# Altium schematic symbol library HabLib.SchLib: 159 symbols (part 1 of 2)
Pins are listed as number, name and electrical type; pins without a type are passive.

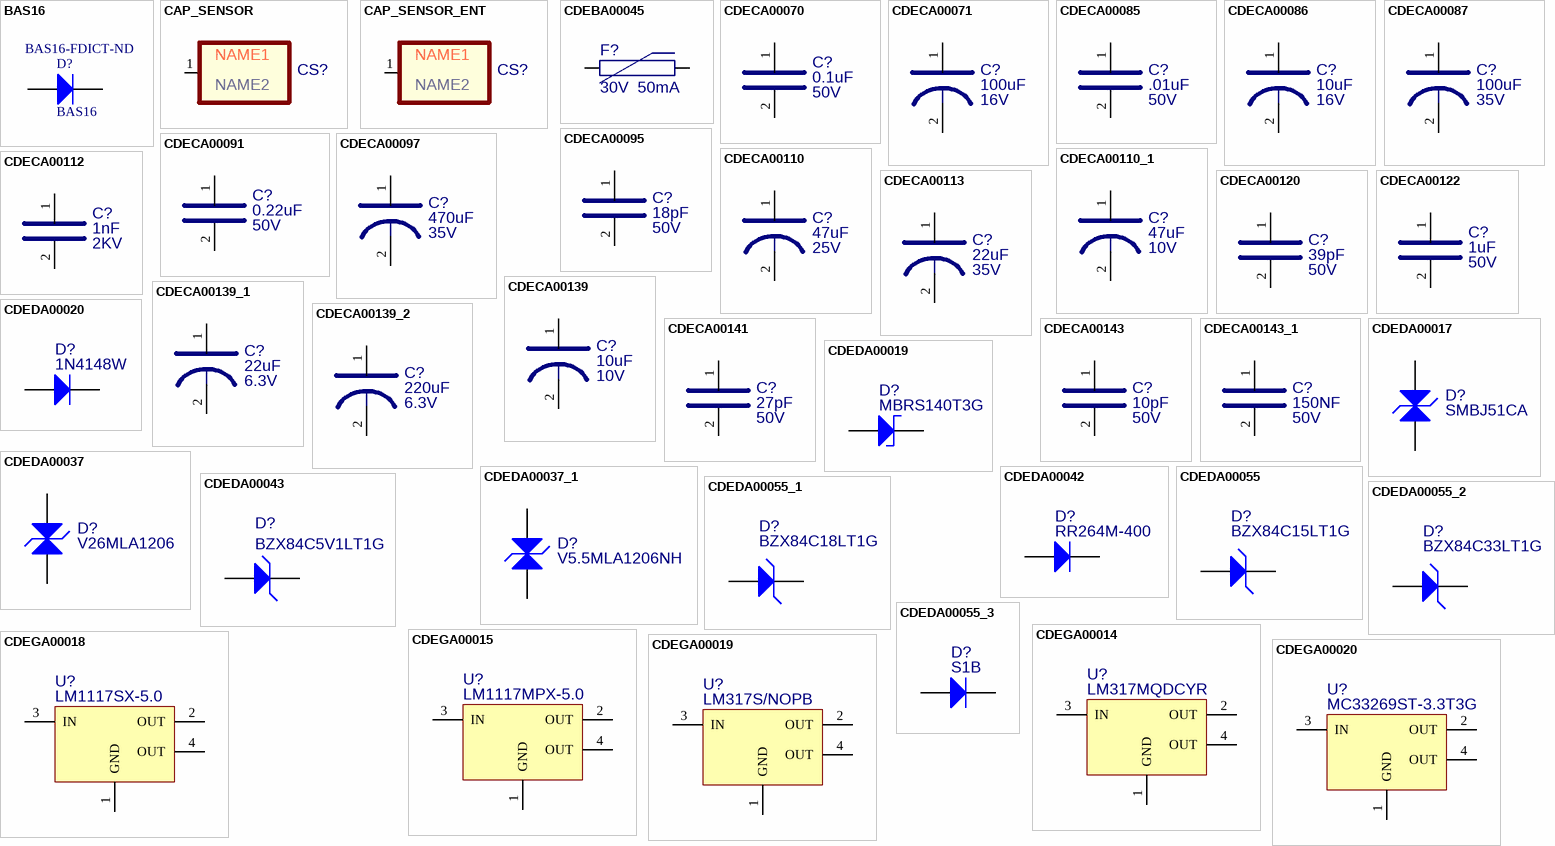
[diagram p0: symbols BAS16 to CDEGA00020]

## BAS16
designator D?  Supplier Part Number 1: BAS16-FDICT-ND
Silicon Switching Diode for High-Speed Switching; Note: Pin 2 is not connected and not drawn.; Published: 21-Mar-2003; DatasheetDocument: Oct-1999; PackageDocument: Sep-2001; PackageReference: SOT-23; Publisher: Altium Limited; ComponentLink1Description: Manufacturer Link; ComponentLink1URL: http://www.infineon.com/; ComponentLink2Description: Datasheet; ComponentLink2URL: http://www.infineon.com/upload/Document/cmc_upload/documents/012/5331/bas16series.pdf; Supplier 1: Digi-Key
simulation model BAS16 (SUBCKT)
footprint SOT23 (SOT-23; 3 Leads; Body 3.1 x 2.5 mm, inc. leads (LxW max), Alternate Lead Configuration)
pins: 1 A, 3 K

## CAP_SENSOR
designator CS?  value NAME1  VALUE2: NAME2  (hidden comment: CAP_SENSOR)
CAP SENSOR FOR PCB; Published: 8-Jun-2000; LatestRevisionDate: 04-Mar-2005; LatestRevisionNote: PCB Footprint replaced.; PackageReference: J1-0603; Publisher: Altium Limited
footprint CAPTOUCH1_10X10 (Cap Touch pad 10x10mm)
pins: 1

## CAP_SENSOR_ENT
designator CS?  value NAME1  VALUE2: NAME2  (hidden comment: CAP_SENSOR_ENT)
CAP SENSOR FOR PCB; Published: 8-Jun-2000; LatestRevisionDate: 04-Mar-2005; LatestRevisionNote: PCB Footprint replaced.; PackageReference: J1-0603; Publisher: Altium Limited
footprint CAPTOUCH1_10X23 (Cap Touch pad 10x10mm)
pins: 1

## CDEBA00045
designator F?  VOLTAGE: 30V  CURRENT: 50mA  (hidden comment: CDEBA00045)
FUSE, RESETTABLE, 50MA, 30V, 1210, ROHS; MFG_PN: MICROSMD005F-2; MFG: TYCO ELECTRONICS; Published: 8-Jun-2000; LatestRevisionDate: 17-Jul-2002; LatestRevisionNote: Re-released for DXP Platform.; PackageReference: PIN-W2/E2.8; Publisher: Altium Limited; Supplier 1: Digi-Key; Supplier Part Number 1: MICROSMD005FCT-ND
footprint MICROSMD0005F (Chip FUSE; Body 3.2 x 2.8 mm (LxW typ))
pins: 1, 2

## CDECA00070
designator C?  value 0.1uF  VOLTAGE: 50V  (hidden comment: CDECA00070)
CAP, CERAMIC CHIP 0.1UF 10% 50V X7R ROHS; MFG: AVX; MFG_PN: 12065C104KAT2A; TOLERANCE: 10%; Supplier 1: Digi-Key; Supplier Part Number 1: 478-1556-1-ND
footprint 3216[1206] - TAN COLOR (Chip Resistor; Body 3.2 x 1.6 mm (LxW typ))
pins: 1, 2

## CDECA00071
designator C?  value 100uF  VOLTAGE: 16V  (hidden comment: CDECA00071)
CAP, AL E, LOW ESR, 100UF, 16V, 20%, ROHS; MFG: PANASONIC; MFG_PN: EEV-HA1C101WP; TOLERANCE: 20%; Supplier 1: Digi-Key; Supplier Part Number 1: PCE3295CT-ND
footprint CAP_ALE_D
pins: 1, 2

## CDECA00085
designator C?  value .01uF  VOLTAGE: 50V  (hidden comment: CDECA00085)
CAP, CERAMIC CHIP 0.01UF 10% 50V X7R ROHS; MFG: PANASONIC; MFG_PN: ECJ-1VB1H103K; TOLERANCE: 10%; Supplier 1: Digi-Key; Supplier Part Number 1: PCC1784CT-ND
footprint 3216[1206] - TAN COLOR (Chip Resistor; Body 3.2 x 1.6 mm (LxW typ))
pins: 1, 2

## CDECA00086
designator C?  value 10uF  VOLTAGE: 16V  (hidden comment: CDECA00086)
CAP, AL E, 10UF, 16V, 20%, ROHS; MFG: PANASONIC; MFG_PN: EEEHB1C100R; TOLERANCE: 20%; Supplier 1: Digi-Key; Supplier Part Number 1: PCE4137CT-ND
footprint CAP_ALE_B
pins: 1, 2

## CDECA00087
designator C?  value 100uF  VOLTAGE: 35V  (hidden comment: CDECA00087)
CAP, AL E, LOW ESR, 100UF, 35V, 20%, ROHS; MFG: PANASONIC; MFG_PN: EEETG1V101UP; TOLERANCE: 20%; Supplier 1: Digi-Key; Supplier Part Number 1: PCE4110CT-ND
footprint CAP_ALE_F
pins: 1, 2

## CDECA00091
designator C?  value 0.22uF  VOLTAGE: 50V  (hidden comment: CDECA00091)
CAP, CERAMIC CHIP 0.22UF 10% 50V X7R ROHS; MFG: PANASONIC; MFG_PN: ECJ-3YB1H224K; TOLERANCE: 10%; Supplier 1: Digi-Key; Supplier Part Number 1: PCC2299CT-ND
footprint 3216[1206] - TAN COLOR (Chip Resistor; Body 3.2 x 1.6 mm (LxW typ))
pins: 1, 2

## CDECA00095
designator C?  value 18pF  VOLTAGE: 50V  (hidden comment: CDECA00095)
CAP, CERAMIC, NPO, 18PF, 50V, 1206, 5%, RoHS; MFG: YAGEO; MFG_PN: CC1206JRNPO9BN180; TOLERANCE: 10%; Supplier 1: Digi-Key; Supplier Part Number 1: 311-1152-1-ND
footprint 3216[1206] - TAN COLOR (Chip Resistor; Body 3.2 x 1.6 mm (LxW typ))
pins: 1, 2

## CDECA00097
designator C?  value 470uF  VOLTAGE: 35V  (hidden comment: CDECA00097)
CAP, AL E, LOW ESR, 470UF, 35V, 20%, ROHS; MFG: PANASONIC; MFG_PN: EEV-TG1V471UQ; TOLERANCE: 20%; Supplier 1: Digi-Key; Supplier Part Number 1: PCE3691CT-ND
footprint CAP_H13
pins: 1, 2

## CDECA00110
designator C?  value 47uF  VOLTAGE: 25V  (hidden comment: CDECA00110)
CAP, AL E, 47UF, 25V, 20%, ROHS; MFG: PANASONIC; MFG_PN: EEE-FK1E470P; TOLERANCE: 20%; Supplier 1: Digi-Key; Supplier Part Number 1: PCE3804CT-ND
footprint CAP_ALE_D
pins: 1, 2

## CDECA00110_1
designator C?  value 47uF  VOLTAGE: 10V  (hidden comment: CDECA00110_1)
CAP, TANT, 47UF, 25V, 20%, 3528 ROHS; MFG: AVX; MFG_PN: TAJB476M010RNJ; TOLERANCE: 20%; Supplier 1: Digi-Key; Supplier Part Number 1: 478-3891-1-ND
footprint CAP_TANT_3528 (Chip Capacitor, Body 3.81x2.54mm, IPC Medium Density)
pins: 1, 2

## CDECA00112
designator C?  value 1nF  VOLTAGE: 2KV  (hidden comment: CDECA00112)
CAP, CERAMIC CHIP 1nF 10% 2000V X7R ROHS; MFG: AVX; MFG_PN: 1206GC102KAT1A; TOLERANCE: 10%; Supplier 1: Digi-Key; Supplier Part Number 1: 478-2956-1-ND
footprint 3216[1206] - TAN COLOR (Chip Resistor; Body 3.2 x 1.6 mm (LxW typ))
pins: 1, 2

## CDECA00113
designator C?  value 22uF  VOLTAGE: 35V  (hidden comment: CDECA00113)
CAP, AL E, 22UF, 35V, 20%, ROHS; MFG: NICHICON; MFG_PN: UWX1V220MCL1GB; TOLERANCE: 20%; Supplier 1: Digi-Key; Supplier Part Number 1: 493-2118-1-ND
footprint CAP_ALE_D
pins: 1, 2

## CDECA00120
designator C?  value 39pF  VOLTAGE: 50V  (hidden comment: CDECA00120)
CAP, CERAMIC, NPO, 39PF, 50V, 1206, 5%, RoHS; MFG: YAGEO; MFG_PN: CC1206JRNP09BN390; TOLERANCE: 10%; Supplier 1: Digi-Key; Supplier Part Number 1: 311-1157-1-ND
footprint 3216[1206] - TAN COLOR (Chip Resistor; Body 3.2 x 1.6 mm (LxW typ))
pins: 1, 2

## CDECA00122
designator C?  value 1uF  VOLTAGE: 50V  (hidden comment: CDECA00122)
CAP, CERAMIC CHIP 1UF 10% 50V X7R ROHS; MFG: AVX; MFG_PN: GRM32RR71H105K; TOLERANCE: 10%; Supplier 1: Digi-Key; Supplier Part Number 1: 490-1863-1-ND
footprint 3225[1210] (Chip Resistor; Body 3.2 x 2.5 mm (LxW typ))
pins: 1, 2

## CDECA00139
designator C?  value 10uF  VOLTAGE: 10V  (hidden comment: CDECA00139)
CAP, TANTALUM, 10UF, 10V, 20%, LOW ESR, ROHS; MFG: AVX; MFG_PN: TCJA106M010R0300; TOLERANCE: 20%; Supplier 1: Digi-Key; Supplier Part Number 1: 478-3127-2-ND
footprint 3216[1206] - TANTALUM (Chip Resistor; Body 3.2 x 1.6 mm (LxW typ))
pins: 1, 2

## CDECA00139_1
designator C?  value 22uF  VOLTAGE: 6.3V  (hidden comment: CDECA00139_1)
CAP, TANT, 22UF, 6.3V, 20%, LOW ESR, 1206ROHS; MFG: AVX; MFG_PN: TAJA226K006RNJ; TOLERANCE: 20%; Supplier 1: Digi-Key; Supplier Part Number 1: 478-3865-1-ND
footprint 3216[1206] - TANTALUM (Chip Resistor; Body 3.2 x 1.6 mm (LxW typ))
pins: 1, 2

## CDECA00139_2
designator C?  value 220uF  VOLTAGE: 6.3V  (hidden comment: CDECA00139_2)
CAP, TANT, 220UF, 6.3V, 20%, LOW ESR, 3528, ROHS; MFG: KEMET; MFG_PN: T520B227M006ATE070; TOLERANCE: 20%; Supplier 1: Digi-Key; Supplier Part Number 1: 399-5756-1-ND
footprint CAP_TANT_3528 (Chip Capacitor, Body 3.81x2.54mm, IPC Medium Density)
pins: 1, 2

## CDECA00141
designator C?  value 27pF  VOLTAGE: 50V  (hidden comment: CDECA00141)
CAP, CERAMIC, NPO, 27PF, 50V, 1206, 5%, RoHS; MFG: AVX; MFG_PN: 12065A270JAT2A; TOLERANCE: 10%; Supplier 1: Digi-Key; Supplier Part Number 1: 478-1473-1-ND
footprint 3216[1206] - TAN COLOR (Chip Resistor; Body 3.2 x 1.6 mm (LxW typ))
pins: 1, 2

## CDECA00143
designator C?  value 10pF  VOLTAGE: 50V  (hidden comment: CDECA00143)
CAP, CERAMIC, NPO, 10PF, 50V, 1206, 5%, RoHS; MFG: AVX; MFG_PN: 12065A100DAT2A; TOLERANCE: 10%; Supplier 1: Digi-Key; Supplier Part Number 1: 478-5053-1-ND
footprint 3216[1206] - TAN COLOR (Chip Resistor; Body 3.2 x 1.6 mm (LxW typ))
pins: 1, 2

## CDECA00143_1
designator C?  value 150NF  VOLTAGE: 50V  (hidden comment: CDECA00143_1)
CAP, CERAMIC, X7R, 150NF, 50V, 1206, 10%, RoHS; MFG: KEMET; MFG_PN: C0805C154K5RACTU; TOLERANCE: 10%; Supplier 1: Digi-Key; Supplier Part Number 1: 399-3489-1-ND
footprint 3216[1206] - TAN COLOR (Chip Resistor; Body 3.2 x 1.6 mm (LxW typ))
pins: 1, 2

## CDEDA00017
designator D?  value SMBJ51CA  (hidden comment: CDEDA00017)
DIODE, TVS, 51V, 600W, SMB, ROHS; MFG: LITTLEFUSE; Published: 8-Jun-2000; LatestRevisionDate: 17-Jul-2002; LatestRevisionNote: Re-released for DXP Platform.; DatasheetDocument: 1997; PackageReference: DO-35; Publisher: Altium Limited; Code_JEDEC: DO-204-AH; ComponentLink1Description: Manufacturer Link; ComponentLink1URL: http://www.fairchildsemi.com/; ComponentLink2Description: Datasheet; ComponentLink2URL: http://www.fairchildsemi.com/ds/1N%2F1N4148.pdf; MFG_PN: SMBJ51CA; Supplier 1: Digi-Key; Supplier Part Number 1: SMBJ51CA-FDICT-ND
footprint DIODE_SMB (DIODE SMB PACKAGE)
pins: 1 A, 2 K

## CDEDA00019
designator D?  value MBRS140T3G  (hidden comment: CDEDA00019)
Diode, Schottky rectifier, 40V, 1A, SMB package, Pb free; MFG: ON SEMICONDUCTOR; Published: 8-Jun-2000; LatestRevisionDate: 17-Jul-2002; LatestRevisionNote: Re-released for DXP Platform.; DatasheetDocument: 1997; PackageReference: DO-35; Publisher: Altium Limited; Code_JEDEC: DO-204-AH; ComponentLink1Description: Manufacturer Link; ComponentLink1URL: http://www.fairchildsemi.com/; ComponentLink2Description: Datasheet; ComponentLink2URL: http://www.fairchildsemi.com/ds/1N%2F1N4148.pdf; Supplier 1: Digi-Key; Supplier Part Number 1: MBRS140T3GOSCT-ND; MFG_PN: MBRS140T3G
footprint DIODE_SMB (DIODE SMB PACKAGE)
pins: 1 A, 2 K

## CDEDA00020
designator D?  value 1N4148W  (hidden comment: CDEDA00020)
DIODE, 150MA, 100V, SOD123; MFG: DIODES INC; MFG_PN: 1N4148W-7-F; Published: 8-Jun-2000; LatestRevisionDate: 17-Jul-2002; LatestRevisionNote: Re-released for DXP Platform.; DatasheetDocument: 1997; PackageReference: DO-35; Publisher: Altium Limited; Code_JEDEC: DO-204-AH; ComponentLink1Description: Manufacturer Link; ComponentLink1URL: http://www.fairchildsemi.com/; ComponentLink2Description: Datasheet; ComponentLink2URL: http://www.fairchildsemi.com/ds/1N%2F1N4148.pdf; Supplier 1: Digi-Key; Supplier 2: Digi-Key; Supplier Part Number 1: 1N4148W-FDICT-ND; Supplier Part Number 2: 1N4148WTPMSDKR-ND
footprint SOD123 (SOD-123; 2 Leads; Body 2.7 x 1.6 mm, (LxW))
pins: 1 A, 2 K

## CDEDA00037
designator D?  value V26MLA1206  (hidden comment: CDEDA00037)
VARISTOR, TVS, 26VDC, 1206, 150A, .60J, RoHS; MFG: LITTLEFUSE; Published: 8-Jun-2000; LatestRevisionDate: 17-Jul-2002; LatestRevisionNote: Re-released for DXP Platform.; DatasheetDocument: 1997; PackageReference: DO-35; Publisher: Altium Limited; Code_JEDEC: DO-204-AH; ComponentLink1Description: Manufacturer Link; ComponentLink1URL: http://www.fairchildsemi.com/; ComponentLink2Description: Datasheet; ComponentLink2URL: http://www.fairchildsemi.com/ds/1N%2F1N4148.pdf; MFG_PN: V26MLA1206; Supplier 1: Digi-Key; Supplier Part Number 1: F2196CT-ND
footprint 3216[1206] (Chip Resistor; Body 3.2 x 1.6 mm (LxW typ))
pins: 1 A, 2 K

## CDEDA00037_1
designator D?  value V5.5MLA1206NH  (hidden comment: CDEDA00037_1)
VARISTOR, TVS, 5.5VDC, 1206, 150A, .60J, RoHS; Manufacturer: Littelfuse Inc; MFG: LITTLEFUSE; Description: VARISTR TVS MULTI 5.5V 150A 1206; Varistor Voltage: 9.3V; Number of Circuits: 1; Maximum AC Volts: 4VAC; Energy: 0.40J; MFG_PN: V5.5MLA1206NH; Supplier 1: Digi-Key; Manufacturer Part Number: V5.5MLA1206NH; RoHS: RoHS Compliant; Category: Circuit Protection; Stock 1: 17500; Pricing 1: 2500=0.437, 5000=0.415, 10000=0.398, 25000=0.387 (USD); Current-Surge: 150A; Maximum DC Volts: 5.5VDC; Package / Case: 1206 (3216 Metric); ComponentLink1URL: http://www.littelfuse.com/data/en/Data_Sheets/Littelfuse_MLV_MLA.pdf; ComponentLink1Description: http://www.littelfuse.com/data/en/Data_Sheets/Littelfuse_MLV_MLA.pdf; Supplier Part Number 1: F2219TR-ND
footprint 3216[1206] (Chip Resistor; Body 3.2 x 1.6 mm (LxW typ))
pins: 1 A, 2 K

## CDEDA00042
designator D?  value RR264M-400  (hidden comment: CDEDA00042)
DIODE, RECTIFIER, 400V, 700MA, SOD123, ROHS; MFG: ROHM; Published: 8-Jun-2000; LatestRevisionDate: 17-Jul-2002; LatestRevisionNote: Re-released for DXP Platform.; DatasheetDocument: 1997; PackageReference: DO-35; Publisher: Altium Limited; Code_JEDEC: DO-204-AH; ComponentLink1Description: Manufacturer Link; ComponentLink1URL: http://www.fairchildsemi.com/; ComponentLink2Description: Datasheet; ComponentLink2URL: http://www.fairchildsemi.com/ds/1N%2F1N4148.pdf; Supplier 1: Digi-Key; Supplier Part Number 1: RR264M-400CT-ND; MFG_PN: RR264M-400
signal-integrity model 1N4148
footprint SOD123 (SOD-123; 2 Leads; Body 2.7 x 1.6 mm, (LxW))
pins: 1 A, 2 K

## CDEDA00043
designator D?  value BZX84C5V1LT1G  (hidden comment: CDEDA00043)
DIODE, ZENER, 5.1V, 225MW, SOT-23, ROHS; MFG: ON SEMICONDUCTOR; Published: 8-Jun-2000; LatestRevisionDate: 17-Jul-2002; LatestRevisionNote: Re-released for DXP Platform.; DatasheetDocument: 1997; PackageReference: DO-35; Publisher: Altium Limited; Code_JEDEC: DO-204-AH; ComponentLink1Description: Manufacturer Link; ComponentLink2Description: Datasheet; MFG_PN: BZX84C5V1LT1G; Supplier 1: Digi-Key; Supplier Part Number 1: BZX84C5V1LT1GOSCT-ND
footprint SOT23 - TRANSISTOR (SOT-23; 3 Leads; Body 3.1 x 2.5 mm, inc. leads (LxW max), Alternate Lead Configuration)
pins: 1 A, 3 K

## CDEDA00055
designator D?  value BZX84C15LT1G  (hidden comment: CDEDA00055)
DIODE, ZENER, 15V, 225MW, SOT-23, ROHS; MFG: ON SEMICONDUCTOR; MFG_PN: BZX84C15LT1G; Supplier 1: Digi-Key; Supplier Part Number 1: BZX84C15LT1GOSCT-ND
footprint SOT23 - TRANSISTOR (SOT-23; 3 Leads; Body 3.1 x 2.5 mm, inc. leads (LxW max), Alternate Lead Configuration)
pins: 1 A, 3 K

## CDEDA00055_1
designator D?  value BZX84C18LT1G  (hidden comment: CDEDA00055_1)
DIODE, ZENER, 18V, 225MW, SOT-23, ROHS; MFG: ON SEMICONDUCTOR; MFG_PN: BZX84C18LT1G; Supplier 1: Digi-Key; Supplier Part Number 1: BZX84C18LT1GOSCT-ND
footprint SOT23 - TRANSISTOR (SOT-23; 3 Leads; Body 3.1 x 2.5 mm, inc. leads (LxW max), Alternate Lead Configuration)
pins: 1 A, 3 K

## CDEDA00055_2
designator D?  value BZX84C33LT1G  (hidden comment: CDEDA00055_2)
DIODE, ZENER, 33V, 225MW, SOT-23, ROHS; MFG: ON SEMICONDUCTOR; MFG_PN: BZX84C33LT1G; Supplier 1: Digi-Key; Supplier Part Number 1: BZX84C33LT1GOSCT-ND
footprint SOT23 - TRANSISTOR (SOT-23; 3 Leads; Body 3.1 x 2.5 mm, inc. leads (LxW max), Alternate Lead Configuration)
pins: 1 A, 3 K

## CDEDA00055_3
designator D?  value S1B  (hidden comment: CDEDA00055_3)
DIODE, 1A, 100V, SMA, ROHS; MFG: FAIRCHILD SEMICONDUCTOR; MFG_PN: S1B; Supplier 1: Digi-Key; Supplier Part Number 1: S1BFSCT-ND
footprint DIODE SMA (SMA DIODE FOOTPRINT)
pins: 1 A, 2 K

## CDEGA00014
designator U?  value LM317MQDCYR  (hidden comment: CDEGA00014)
IC, REGULATOR, LINEAR, ADJUSTABLE, SOT-223; MFG: TEXAS INSTRUMENTS; MFG_PN: LM317MQDCYR; Supplier 1: Digi-Key; Supplier 2: Digi-Key; Supplier Part Number 1: LM317MBSTT3GOSCT-ND; Supplier Part Number 2: 296-23127-1-ND
footprint SOT223 (SOT-223/SC-73; 4 Leads; Body 6.7 x 7.3 mm, inc. leads (LxW max))
pins: 1 GND, 2 OUT, 3 IN, 4 OUT

## CDEGA00015
designator U?  value LM1117MPX-5.0  (hidden comment: CDEGA00015)
IC, REGULATOR, 5V, .8A, SOT-223, ROHS; MFG: NATIONAL SEMICONDUCTOR; MFG_PN: LM1117MPX-5.0; Supplier 1: Digi-Key; Supplier 2: Digi-Key; Supplier Part Number 1: 497-1243-1-ND; Supplier Part Number 2: LM1117MPX-5.0CT-ND
footprint SOT223 (SOT-223/SC-73; 4 Leads; Body 6.7 x 7.3 mm, inc. leads (LxW max))
pins: 1 GND, 2 OUT, 3 IN, 4 OUT

## CDEGA00018
designator U?  value LM1117SX-5.0  (hidden comment: CDEGA00018)
IC, REGULATOR, LDO, 5.0V, TO-263, ROHS; MFG: NATIONAL SEMICONDUCTOR; MFG_PN: LM1117SX-5.0; Supplier 1: Digi-Key; Supplier Part Number 1: LM1117SX-5.0-ND
pins: 1 GND, 2 OUT, 3 IN, 4 OUT

## CDEGA00019
designator U?  value LM317S/NOPB  (hidden comment: CDEGA00019)
IC, REGULATOR, LINEAR, ADJUSTABLE, TO-263; MFG: NATIONAL SEMICONDUCTOR; MFG_PN: LM317S/NOPB; Supplier 1: Digi-Key; Supplier 2: Digi-Key; Supplier Part Number 1: FAN1086M25X-ND; Supplier Part Number 2: LM317S-ND
pins: 1 GND, 2 OUT, 3 IN, 4 OUT

## CDEGA00020
designator U?  value MC33269ST-3.3T3G  (hidden comment: CDEGA00020)
IC, REGULATOR, LOD, 3.3V, SOT-223, ROHS; MFG: ON SEMICONDUCTOR; MFG_PN: MC33269ST-3.3T3G; Supplier 1: Digi-Key; Supplier Part Number 1: MC33269ST-3.3T3GOSCT-ND
footprint SOT223 (SOT-223/SC-73; 4 Leads; Body 6.7 x 7.3 mm, inc. leads (LxW max))
pins: 1 GND, 2 OUT, 3 IN, 4 OUT

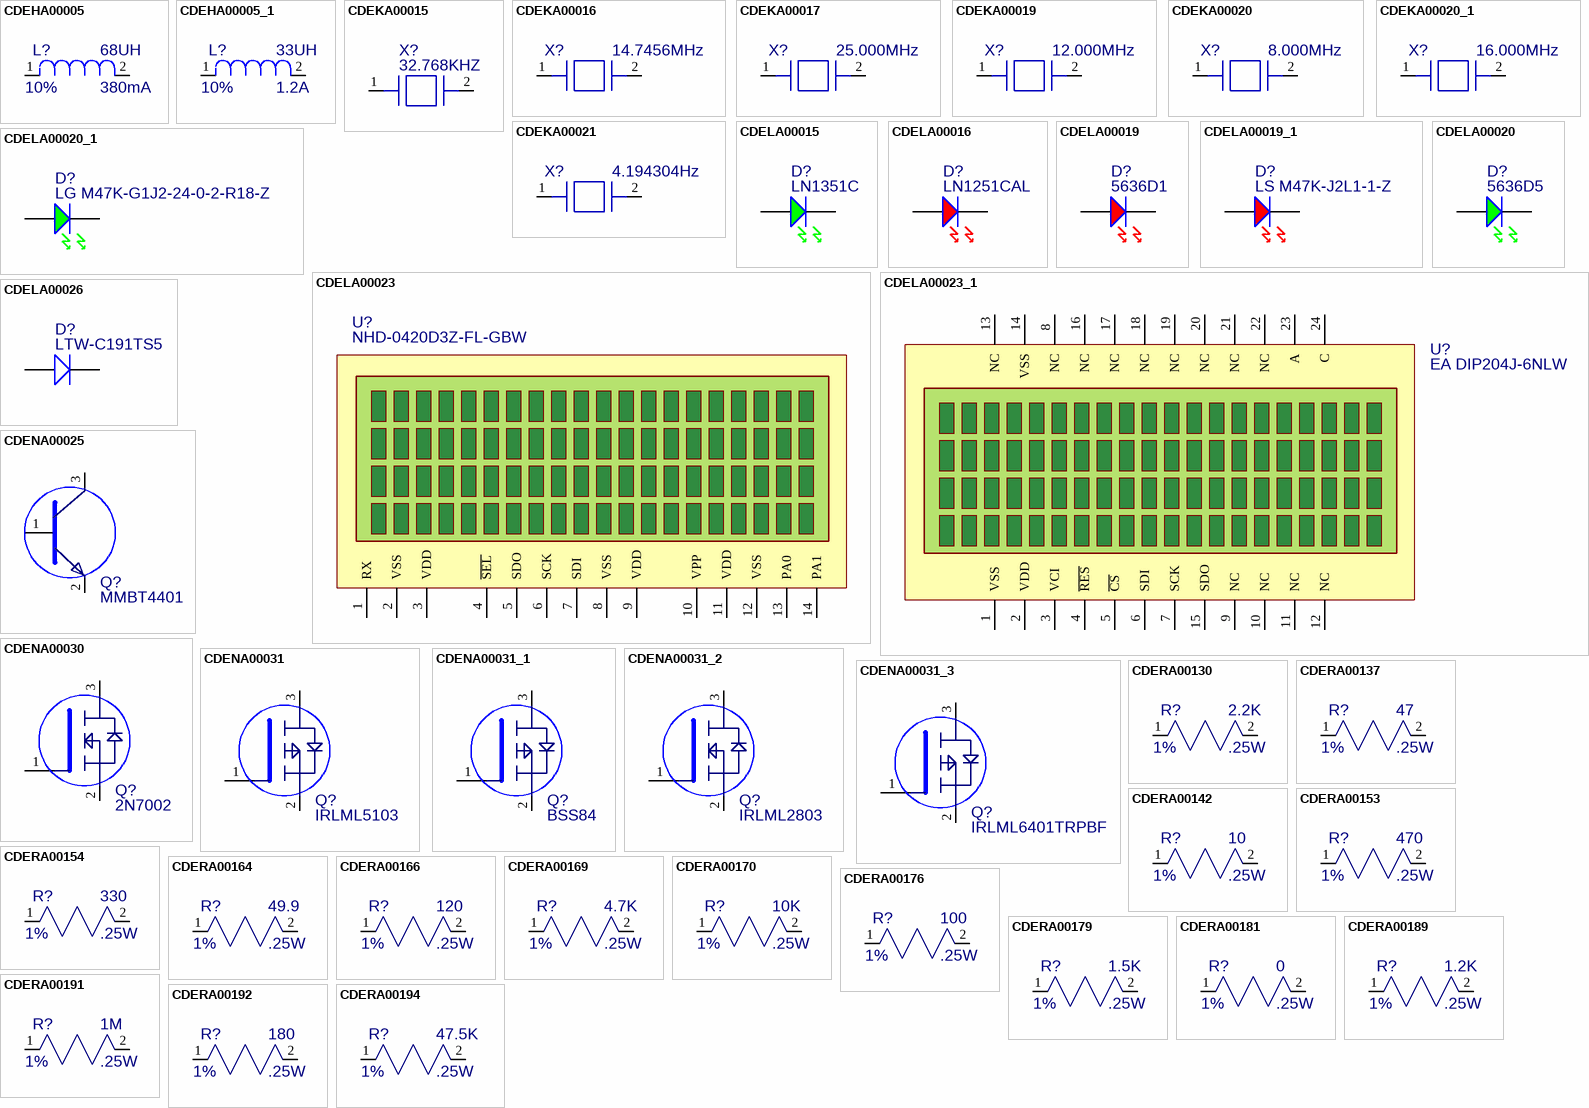
[diagram p1: symbols CDEHA00005 to CDERA00194]

## CDEHA00005
designator L?  value 68UH  TOLERANCE: 10%  POWER: 380mA  (hidden comment: CDEHA00005)
INDUCTOR, 68UH, 10%, SMT, NON-SHIELDED, PB FREE; MFG_PN: SDR0703-680KL; MFG: BOURNS; Published: 8-Jun-2000; LatestRevisionDate: 04-Mar-2005; LatestRevisionNote: PCB Footprint replaced.; PackageReference: J1-0603; Publisher: Altium Limited; Supplier 1: Digi-Key; Supplier Part Number 1: SDR0703-680KLCT-ND
footprint BOURNS_SDR0703-XXXX (BOURNS SDR0703-680KL INDUCTOR)
pins: 1, 2

## CDEHA00005_1
designator L?  value 33UH  TOLERANCE: 10%  POWER: 1.2A  (hidden comment: CDEHA00005_1)
INDUCTOR, 33UH, 10%, SMT, NON-SHIELDED, FERRITE CORE, ROHS; MFG_PN: SDR0805-330KL; MFG: BOURNS; Supplier 1: Digi-Key; Supplier Part Number 1: SDR0805-330KLCT-ND
footprint BOURNS_SDR0805-XXXX (BOURNS SDR0805-680KL INDUCTOR)
pins: 1, 2

## CDEKA00015
designator X?  value 32.768KHZ  (hidden comment: CDEKA00015)
CRYSTAL, 32.768KHZ, 12.5PF, SMT SM CYLINDRICAL CAN; MFG: CITIZEN; MFG_PN: CMR200T32.768KDZF-UT; TOLERANCE: 20ppm; Supplier 1: Digi-Key; Supplier Part Number 1: 300-8340-1-ND
footprint CITIZEN_CMR200T (CRYSTAL, CYLINDRICAL)
pins: 1, 2

## CDEKA00016
designator X?  value 14.7456MHz  (hidden comment: CDEKA00016)
CRYSTAL, 14.7456MHZ, 18PF, SMT HC49/US; MFG: CITIZEN; MFG_PN: HCM49-14.7456MABJ-UT; TOLERANCE: 30ppm; Published: 8-Jun-2000; LatestRevisionDate: 04-Mar-2005; LatestRevisionNote: PCB Footprint replaced.; PackageReference: J1-0603; Publisher: Altium Limited; Supplier 1: Digi-Key; Supplier Part Number 1: 300-8552-1-ND
footprint HC49/US-SM (Chip Resistor; Body 3.2 x 1.6 mm (LxW typ))
pins: 1, 2

## CDEKA00017
designator X?  value 25.000MHz  (hidden comment: CDEKA00017)
CRYSTAL, 25.000MHZ, 18PF, SMT HC49/US; MFG: CITIZEN; MFG_PN: HCM49-25.000MABJ-UT; TOLERANCE: 30ppm; Published: 8-Jun-2000; LatestRevisionDate: 04-Mar-2005; LatestRevisionNote: PCB Footprint replaced.; PackageReference: J1-0603; Publisher: Altium Limited; Supplier 1: Digi-Key; Supplier Part Number 1: 300-8569-1-ND
footprint HC49/US-SM (Chip Resistor; Body 3.2 x 1.6 mm (LxW typ))
pins: 1, 2

## CDEKA00019
designator X?  value 12.000MHz  (hidden comment: CDEKA00019)
CRYSTAL, 12.000MHZ, 18PF, SMT HC49/US; MFG: CITIZEN; MFG_PN: HCM49-12.000MABJ-UT; TOLERANCE: 30ppm; Supplier 1: Digi-Key; Supplier Part Number 1: 300-8548-1-ND
footprint HC49/US-SM (Chip Resistor; Body 3.2 x 1.6 mm (LxW typ))
pins: 1, 2

## CDEKA00020
designator X?  value 8.000MHz  (hidden comment: CDEKA00020)
CRYSTAL, 8.000MHZ, 18PF, SMT HC49/US; MFG: CITIZEN; MFG_PN: HCM49-8.000MABJ-UT; TOLERANCE: 30ppm; Published: 8-Jun-2000; LatestRevisionDate: 04-Mar-2005; LatestRevisionNote: PCB Footprint replaced.; PackageReference: J1-0603; Publisher: Altium Limited; Supplier 1: Digi-Key; Supplier Part Number 1: 300-8540-1-ND
footprint HC49/US-SM (Chip Resistor; Body 3.2 x 1.6 mm (LxW typ))
pins: 1, 2

## CDEKA00020_1
designator X?  value 16.000MHz  (hidden comment: CDEKA00020_1)
CRYSTAL, 16.000MHZ, 18PF, SMT HC49/US; MFG: CITIZEN; MFG_PN: HCM49-16.000MABJ-UT; TOLERANCE: 30ppm; Published: 8-Jun-2000; LatestRevisionDate: 04-Mar-2005; LatestRevisionNote: PCB Footprint replaced.; PackageReference: J1-0603; Publisher: Altium Limited; Supplier 1: Digi-Key; Supplier Part Number 1: 300-8555-6-ND
footprint HC49/US-SM (Chip Resistor; Body 3.2 x 1.6 mm (LxW typ))
pins: 1, 2

## CDEKA00021
designator X?  value 4.194304Hz  (hidden comment: CDEKA00021)
CRYSTAL, 4.194304MHZ, 18PF, SMT HC49/US; MFG: CITIZEN; MFG_PN: HCM49-4.194304MABJ-UT; TOLERANCE: 30ppm; Supplier 1: Digi-Key; Supplier Part Number 1: 300-8529-2-ND
footprint HC49/US-SM (Chip Resistor; Body 3.2 x 1.6 mm (LxW typ))
pins: 1, 2

## CDELA00015
designator D?  value LN1351C  (hidden comment: CDELA00015)
DIODE,LED GREEN 1206 SMD; MFG: PANASONIC; MFG_PN: LN1351CTR; Published: 8-Jun-2000; LatestRevisionDate: 17-Jul-2002; LatestRevisionNote: Re-released for DXP Platform.; DatasheetDocument: 1997; PackageReference: DO-35; Publisher: Altium Limited; Code_JEDEC: DO-204-AH; ComponentLink1Description: Manufacturer Link; ComponentLink1URL: http://www.fairchildsemi.com/; ComponentLink2Description: Datasheet; ComponentLink2URL: http://www.fairchildsemi.com/ds/1N%2F1N4148.pdf; Supplier 1: Digi-Key; Supplier Part Number 1: P501CT-ND
footprint PANASONIC_LN1351C
pins: 1 A, 2 K

## CDELA00016
designator D?  value LN1251CAL  (hidden comment: CDELA00016)
DIODE,LED RED 1208 SMD; Published: 8-Jun-2000; LatestRevisionDate: 17-Jul-2002; LatestRevisionNote: Re-released for DXP Platform.; DatasheetDocument: 1997; PackageReference: DO-35; Publisher: Altium Limited; Code_JEDEC: DO-204-AH; ComponentLink1Description: Manufacturer Link; ComponentLink1URL: http://www.fairchildsemi.com/; ComponentLink2Description: Datasheet; ComponentLink2URL: http://www.fairchildsemi.com/ds/1N%2F1N4148.pdf; Supplier 1: Digi-Key; Supplier Part Number 1: P11126CT-ND
footprint PANASONIC_LN1251CAL
pins: 1 A, 2 K

## CDELA00019
designator D?  value 5636D1  (hidden comment: CDELA00019)
DIODE,LED RED RT ANG TH VF=2.1 I=20MA; MFG: CHICAGO MINIATURE; MFG_PN: 5636D1; Supplier 1: Digi-Key; Supplier Part Number 1: L20541-ND
footprint CHICAGO_5636DX-RED (CHICAGO MINIATURE 5636 SERIES RED)
pins: 1 A, 2 K

## CDELA00019_1
designator D?  value LS M47K-J2L1-1-Z  (hidden comment: CDELA00019_1)
DIODE,LED RED UNDER MOUNT SM VF=1.8 I=2MA ROHS; MFG: OSRAM; MFG_PN: LS M47K-J2L1-1-Z; Supplier 1: Digi-Key; Supplier Part Number 1: 475-2762-1-ND
footprint OSRAM_XX_M47K (LED UNDERMOUNT SM 0805)
pins: 1 A, 2 K

## CDELA00020
designator D?  value 5636D5  (hidden comment: CDELA00020)
DIODE,LED RED RT ANG TH VF=2.1 I=20MA; MFG: CHICAGO MINIATURE; MFG_PN: 5636D5; Supplier 1: Digi-Key; Supplier Part Number 1: L20545-ND
footprint CHICAGO_5636DX-GREEN (CHICAGO MINIATURE 5636 SERIES GREEN)
pins: 1 A, 2 K

## CDELA00020_1
designator D?  value LG M47K-G1J2-24-0-2-R18-Z  (hidden comment: CDELA00020_1)
DIODE,LED GREEN UNDER MOUNT SM VF=1.8 I=2MA ROHS; MFG: OSRAM; MFG_PN: LG M47K-G1J2-24-0-2-R18-Z; Supplier 1: Digi-Key; Supplier Part Number 1: 475-1404-1-ND
footprint OSRAM_XX_M47K (LED UNDERMOUNT SM 0805)
pins: 1 A, 2 K

## CDELA00023
designator U?  value NHD-0420D3Z-FL-GBW  (hidden comment: CDELA00023)
LCD, 4X20, SERIAL INTERFACE, 5X8DOT; MFG: NEW HAVEN DISPLAY; Published: 8-Jun-2000; LatestRevisionDate: 17-Jul-2002; LatestRevisionNote: Re-released for DXP Platform.; DatasheetDocument: 1997; Publisher: Altium Limited; Code_JEDEC: DO-204-AH; ComponentLink1Description: Manufacturer Link; ComponentLink1URL: http://www.fairchildsemi.com/; ComponentLink2Description: Datasheet; ComponentLink2URL: http://www.fairchildsemi.com/ds/1N%2F1N4148.pdf; MFG_PN: NHD-0420D3Z-FL-GBW; Supplier 1: Digi-Key; Supplier Part Number 1: NHD-0420D3Z-FL-GBW-ND
pins: 1 RX, 2 VSS, 3 VDD, 4 ~{SEL}, 5 SDO, 6 SCK, 7 SDI, 8 VSS, 9 VDD, 10 VPP, 11 VDD, 12 VSS, 13 PA0, 14 PA1

## CDELA00023_1
designator U?  value EA DIP204J-6NLW  (hidden comment: CDELA00023_1)
LCD, 4X20 WITH ICONS, SERIAL INTERFACE, 5X8DOT, WHITE BACKLIGHT; MFG: ELECTRONIC ASSEMBLY; MFG_PN: EA DIP204J-6NLW
footprint EA_790-EADIP204J6NLW (DISPLAY, 4X20, WITH ICONS, BLK&WHT, LED BACKLIGHT, ROHS)
pins: 1 VSS, 2 VDD, 3 VCI, 4 ~{RES}, 5 ~{CS}, 6 SDI, 7 SCK, 8 NC, 9 NC, 10 NC, 11 NC, 12 NC, 13 NC, 14 VSS, 15 SDO, 16 NC, 17 NC, 18 NC, 19 NC, 20 NC, 21 NC, 22 NC, 23 A, 24 C

## CDELA00026
designator D?  value LTW-C191TS5  (hidden comment: CDELA00026)
DIODE, LED, WHITE, 1206 SMD; MFG: LITE-ON; Published: 8-Jun-2000; LatestRevisionDate: 17-Jul-2002; LatestRevisionNote: Re-released for DXP Platform.; DatasheetDocument: 1997; PackageReference: DO-35; Publisher: Altium Limited; Code_JEDEC: DO-204-AH; ComponentLink1Description: Manufacturer Link; ComponentLink1URL: http://www.fairchildsemi.com/; ComponentLink2Description: Datasheet; ComponentLink2URL: http://www.fairchildsemi.com/ds/1N%2F1N4148.pdf; Supplier 1: Digi-Key; Supplier Part Number 1: 160-1724-1-ND; MFG_PN: LTW-C191TS5
footprint LITEON_LTW-C191TS5 (LED- WITH LENZ)
pins: 1 A, 2 K

## CDENA00025
designator Q?  value MMBT4401  (hidden comment: CDENA00025)
NPN General Purpose Amplifier CDENA00025, SOT 23; MFG: DIODES INC; MFG_PN: MMBT4401LT1G; MFG: ON SEMICONDUCTOR; Published: 8-Jun-2000; LatestRevisionDate: 15-Jan-2003; LatestRevisionNote: PCB Footprint 'BCY-W3/D4.7' replaced; DatasheetDocument: 1997; PackageDocument: Sep-1998; PackageReference: TO-92A; Publisher: Altium Limited; Code_JEDEC: TO-92A; ComponentLink1Description: Manufacturer Link; ComponentLink1URL: http://www.fairchildsemi.com/; ComponentLink2Description: Datasheet; ComponentLink2URL: http://www.fairchildsemi.com/ds/2N%2F2N3904.pdf; Supplier 1: Digi-Key; Supplier 2: Digi-Key; Supplier 3: Digi-Key; Supplier 4: Digi-Key; Supplier Part Number 1: MMBT4401LT1GOSCT-ND; Supplier Part Number 2: MMBT4401FSCT-ND; Supplier Part Number 3: MMBT4401-FDICT-ND; Supplier Part Number 4: MMBT4401TPMSTR-ND
footprint SOT23 - TRANSISTOR (SOT-23; 3 Leads; Body 3.1 x 2.5 mm, inc. leads (LxW max), Alternate Lead Configuration)
pins: 1 B, 2 E, 3 C

## CDENA00030
designator Q?  value 2N7002  (hidden comment: CDENA00030)
MOSFET N CHN, VDS=60V, 115 mA, SOT 23; MFG_PN: 2N7002-7-F; MFG: DIODES INC; Published: 8-Jun-2000; LatestRevisionDate: 15-Jan-2003; LatestRevisionNote: PCB Footprint 'BCY-W3/D4.7' replaced; DatasheetDocument: 1997; PackageDocument: Sep-1998; PackageReference: TO-92A; Publisher: Altium Limited; Code_JEDEC: TO-92A; ComponentLink1Description: Manufacturer Link; ComponentLink1URL: http://www.fairchildsemi.com/; ComponentLink2Description: Datasheet; ComponentLink2URL: http://www.fairchildsemi.com/ds/2N%2F2N3904.pdf; Supplier 3: Digi-Key; Supplier 4: Digi-Key; Supplier 1: Digi-Key; Supplier Part Number 1: 2N7002-FDICT-ND
footprint SOT23 - TRANSISTOR (SOT-23; 3 Leads; Body 3.1 x 2.5 mm, inc. leads (LxW max), Alternate Lead Configuration)
pins: 1 B, 2 E, 3 C

## CDENA00031
designator Q?  value IRLML5103  (hidden comment: CDENA00031)
MOSFET P CHN, VDS=30V, RDSON = .6OHM, SOT 23; MFG: INTERNATIONAL RECTIFIER; Published: 8-Jun-2000; LatestRevisionDate: 15-Jan-2003; LatestRevisionNote: PCB Footprint 'BCY-W3/D4.7' replaced; DatasheetDocument: 1997; PackageDocument: Sep-1998; PackageReference: TO-92A; Publisher: Altium Limited; Code_JEDEC: TO-92A; ComponentLink1Description: Manufacturer Link; ComponentLink1URL: http://www.fairchildsemi.com/; ComponentLink2Description: Datasheet; ComponentLink2URL: http://www.fairchildsemi.com/ds/2N%2F2N3904.pdf; Supplier 1: Digi-Key; Supplier 3: Digi-Key; MFG_PN: IRLML5103; Supplier 4: Digi-Key; Supplier Part Number 1: IRLML5103PBFCT-ND
footprint SOT23 - TRANSISTOR (SOT-23; 3 Leads; Body 3.1 x 2.5 mm, inc. leads (LxW max), Alternate Lead Configuration)
pins: 1 B, 2 E, 3 C

## CDENA00031_1
designator Q?  value BSS84  (hidden comment: CDENA00031_1)
MOSFET P CHN, VDS=50V, RDSON = 10OHM, SOT 23; MFG_PN: BSS84-7-F; MFG: DIODES INC; Published: 8-Jun-2000; LatestRevisionDate: 15-Jan-2003; DatasheetDocument: 1997; PackageDocument: Sep-1998; PackageReference: TO-92A; Publisher: Altium Limited; Code_JEDEC: TO-92A; ComponentLink1Description: Manufacturer Link; ComponentLink1URL: http://www.fairchildsemi.com/; ComponentLink2Description: Datasheet; Supplier 1: Digi-Key; Supplier Part Number 1: P59.0KFCT-ND
footprint SOT23 - TRANSISTOR (SOT-23; 3 Leads; Body 3.1 x 2.5 mm, inc. leads (LxW max), Alternate Lead Configuration)
pins: 1 B, 2 E, 3 C

## CDENA00031_2
designator Q?  value IRLML2803  (hidden comment: CDENA00031_2)
MOSFET N CHN, VDS=60V, 115 mA, SOT 23; MFG_PN: IRLML2803TRPBF; MFG: INTERNATIONAL RECTIFIER; Published: 8-Jun-2000; LatestRevisionDate: 15-Jan-2003; LatestRevisionNote: PCB Footprint 'BCY-W3/D4.7' replaced; PackageDocument: Sep-1998; PackageReference: TO-92A; Publisher: Altium Limited; Code_JEDEC: TO-92A; ComponentLink1Description: Manufacturer Link; ComponentLink2Description: Datasheet; Supplier 1: Digi-Key; Supplier Part Number 1: IRLML2803PBFCT-ND
footprint SOT23 - TRANSISTOR (SOT-23; 3 Leads; Body 3.1 x 2.5 mm, inc. leads (LxW max), Alternate Lead Configuration)
pins: 1 B, 2 E, 3 C

## CDENA00031_3
designator Q?  value IRLML6401TRPBF  (hidden comment: CDENA00031_3)
MOSFET P CHN, VDS=12V, RDSON = .05OHM, SOT 23; MFG_PN: IIRLML6401TRPBF; MFG: INTERNATIONAL RECTIFIER; Published: 8-Jun-2000; LatestRevisionDate: 15-Jan-2003; LatestRevisionNote: PCB Footprint 'BCY-W3/D4.7' replaced; DatasheetDocument: 1997; PackageDocument: Sep-1998; PackageReference: TO-92A; Publisher: Altium Limited; Code_JEDEC: TO-92A; ComponentLink1Description: Manufacturer Link; ComponentLink1URL: http://www.fairchildsemi.com/; ComponentLink2Description: Datasheet; ComponentLink2URL: http://www.fairchildsemi.com/ds/2N%2F2N3904.pdf; Supplier 3: Digi-Key; Supplier 4: Digi-Key; Supplier 1: Digi-Key; Supplier Part Number 1: IRLML6401PBFCT-ND
footprint SOT23 - TRANSISTOR (SOT-23; 3 Leads; Body 3.1 x 2.5 mm, inc. leads (LxW max), Alternate Lead Configuration)
pins: 1 B, 2 E, 3 C

## CDERA00130
designator R?  value 2.2K  TOLERANCE: 1%  POWER: .25W  (hidden comment: CDERA00130)
RESISTOR, CHIP 1206 2.2K OHM 1% 1/4W THICK FILM ROHS; MFG: PANASONIC; MFG_PN: ERJ-8ENF2201V; Published: 8-Jun-2000; LatestRevisionDate: 04-Mar-2005; LatestRevisionNote: PCB Footprint replaced.; PackageReference: J1-0603; Publisher: Altium Limited; Supplier 1: Digi-Key; Supplier Part Number 1: P2.20KFCT-ND
footprint 3216[1206] (Chip Resistor; Body 3.2 x 1.6 mm (LxW typ))
pins: 1, 2

## CDERA00137
designator R?  value 47  TOLERANCE: 1%  POWER: .25W  (hidden comment: CDERA00137)
RESISTOR, CHIP 1206 47 OHM 1% 1/4W THICK FILM ROHS; MFG: PANASONIC; MFG_PN: ERJ-8GEYJ470V; Published: 8-Jun-2000; LatestRevisionDate: 04-Mar-2005; LatestRevisionNote: PCB Footprint replaced.; PackageReference: J1-0603; Publisher: Altium Limited; Supplier 1: Digi-Key; Supplier Part Number 1: P47ECT-ND
footprint 3216[1206] (Chip Resistor; Body 3.2 x 1.6 mm (LxW typ))
pins: 1, 2

## CDERA00142
designator R?  value 10  TOLERANCE: 1%  POWER: .25W  (hidden comment: CDERA00142)
RESISTOR, CHIP 1206 10 OHM 1% 1/4W THICK FILM ROHS; MFG: PANASONIC; MFG_PN: ERJ-8ENF10R0V; Supplier 1: Digi-Key; Supplier Part Number 1: P10.0FCT-ND
footprint 3216[1206] (Chip Resistor; Body 3.2 x 1.6 mm (LxW typ))
pins: 1, 2

## CDERA00153
designator R?  value 470  TOLERANCE: 1%  POWER: .25W  (hidden comment: CDERA00153)
RESISTOR, CHIP 1206 470 OHM 1% 1/4W THICK FILM ROHS; MFG: PANASONIC; MFG_PN: ERJ-8ENF4700V; Published: 8-Jun-2000; LatestRevisionDate: 04-Mar-2005; LatestRevisionNote: PCB Footprint replaced.; PackageReference: J1-0603; Publisher: Altium Limited; Supplier 1: Digi-Key; Supplier Part Number 1: P470FTR-ND
footprint 3216[1206] (Chip Resistor; Body 3.2 x 1.6 mm (LxW typ))
pins: 1, 2

## CDERA00154
designator R?  value 330  TOLERANCE: 1%  POWER: .25W  (hidden comment: CDERA00154)
RESISTOR, CHIP 1206 330 OHM 1% 1/4W THICK FILM ROHS; MFG: PANASONIC; MFG_PN: ERJ-8ENF3300V; Published: 8-Jun-2000; LatestRevisionDate: 04-Mar-2005; LatestRevisionNote: PCB Footprint replaced.; PackageReference: J1-0603; Publisher: Altium Limited; Supplier 1: Digi-Key; Supplier Part Number 1: P330FTR-ND
footprint 3216[1206] (Chip Resistor; Body 3.2 x 1.6 mm (LxW typ))
pins: 1, 2

## CDERA00164
designator R?  value 49.9  TOLERANCE: 1%  POWER: .25W  (hidden comment: CDERA00164)
RESISTOR, CHIP 1206 49.9 OHM 1% 1/4W THICK FILM ROHS; MFG: PANASONIC; MFG_PN: ERJ-S08F49R9V; Published: 8-Jun-2000; LatestRevisionDate: 04-Mar-2005; LatestRevisionNote: PCB Footprint replaced.; PackageReference: J1-0603; Publisher: Altium Limited
footprint 3216[1206] (Chip Resistor; Body 3.2 x 1.6 mm (LxW typ))
pins: 1, 2

## CDERA00166
designator R?  value 120  TOLERANCE: 1%  POWER: .25W  (hidden comment: CDERA00166)
RESISTOR, CHIP 1206 120 OHM 1% 1/4W THICK FILM ROHS; MFG: PANASONIC; MFG_PN: ERJ-8GEYJ121V; Published: 8-Jun-2000; LatestRevisionDate: 04-Mar-2005; LatestRevisionNote: PCB Footprint replaced.; PackageReference: J1-0603; Publisher: Altium Limited; Supplier 1: Digi-Key; Supplier Part Number 1: P120ECT-ND
footprint 3216[1206] (Chip Resistor; Body 3.2 x 1.6 mm (LxW typ))
pins: 1, 2

## CDERA00169
designator R?  value 4.7K  TOLERANCE: 1%  POWER: .25W  (hidden comment: CDERA00169)
RESISTOR, CHIP 1206 4.7K OHM 1% 1/4W THICK FILM ROHS; MFG: PANASONIC; MFG_PN: ERJ-8GEYJ472V; Published: 8-Jun-2000; LatestRevisionDate: 04-Mar-2005; LatestRevisionNote: PCB Footprint replaced.; PackageReference: J1-0603; Publisher: Altium Limited; Supplier 1: Digi-Key; Supplier Part Number 1: P4.7KECT-ND
footprint 3216[1206] (Chip Resistor; Body 3.2 x 1.6 mm (LxW typ))
pins: 1, 2

## CDERA00170
designator R?  value 10K  TOLERANCE: 1%  POWER: .25W  (hidden comment: CDERA00170)
RESISTOR, CHIP 1206 10K OHM 1% 1/4W THICK FILM ROHS; MFG: PANASONIC; MFG_PN: ERJ-8GEYJ103V; Published: 8-Jun-2000; LatestRevisionDate: 04-Mar-2005; LatestRevisionNote: PCB Footprint replaced.; PackageReference: J1-0603; Publisher: Altium Limited; Supplier 1: Digi-Key; Supplier 2: Digi-Key; Supplier Part Number 1: P10KECT-ND; Supplier Part Number 2: 311-10KERCT-ND
footprint 3216[1206] (Chip Resistor; Body 3.2 x 1.6 mm (LxW typ))
pins: 1, 2

## CDERA00176
designator R?  value 100  TOLERANCE: 1%  POWER: .25W  (hidden comment: CDERA00176)
RESISTOR, CHIP 1206 100 OHM 1% 1/4W THICK FILM ROHS; MFG: PANASONIC; MFG_PN: ERJ-8GEYJ101V; Published: 8-Jun-2000; LatestRevisionDate: 04-Mar-2005; LatestRevisionNote: PCB Footprint replaced.; PackageReference: J1-0603; Publisher: Altium Limited; Supplier 1: Digi-Key; Supplier Part Number 1: P100ECT-ND
footprint 3216[1206] (Chip Resistor; Body 3.2 x 1.6 mm (LxW typ))
pins: 1, 2

## CDERA00179
designator R?  value 1.5K  TOLERANCE: 1%  POWER: .25W  (hidden comment: CDERA00179)
RESISTOR, CHIP 1206 1.5K OHM 1% 1/4W THICK FILM ROHS; MFG: PANASONIC; MFG_PN: ERJ-8GEYJ152V; Published: 8-Jun-2000; LatestRevisionDate: 04-Mar-2005; LatestRevisionNote: PCB Footprint replaced.; PackageReference: J1-0603; Publisher: Altium Limited; Supplier 1: Digi-Key; Supplier 2: Digi-Key; Supplier Part Number 1: P1.5KECT-ND
footprint 3216[1206] (Chip Resistor; Body 3.2 x 1.6 mm (LxW typ))
pins: 1, 2

## CDERA00181
designator R?  value 0  TOLERANCE: 1%  POWER: .25W  (hidden comment: CDERA00181)
RESISTOR, CHIP 1206 0.0 OHM 1% 1/4W THICK FILM ROHS; MFG: PANASONIC; MFG_PN: ERJ-8GEYJ122V; Published: 8-Jun-2000; LatestRevisionDate: 04-Mar-2005; LatestRevisionNote: PCB Footprint replaced.; PackageReference: J1-0603; Publisher: Altium Limited; Supplier 1: Digi-Key; Supplier Part Number 1: P0.0ECT-ND
footprint 3216[1206] (Chip Resistor; Body 3.2 x 1.6 mm (LxW typ))
pins: 1, 2

## CDERA00189
designator R?  value 1.2K  TOLERANCE: 1%  POWER: .25W  (hidden comment: CDERA00189)
RESISTOR, CHIP 1206 1.2K OHM 1% 1/4W THICK FILM ROHS; MFG: PANASONIC; MFG_PN: ERJ-8GEYJ122V; Published: 8-Jun-2000; LatestRevisionDate: 04-Mar-2005; LatestRevisionNote: PCB Footprint replaced.; PackageReference: J1-0603; Publisher: Altium Limited; Supplier 1: Digi-Key; Supplier Part Number 1: P1.2KECT-ND
footprint 3216[1206] (Chip Resistor; Body 3.2 x 1.6 mm (LxW typ))
pins: 1, 2

## CDERA00191
designator R?  value 1M  TOLERANCE: 1%  POWER: .25W  (hidden comment: CDERA00191)
RESISTOR, CHIP 1206 1MOHM 1% 1/4W THICK FILM ROHS; MFG: PANASONIC; MFG_PN: ERJ-8GEYJ105V; Published: 8-Jun-2000; LatestRevisionDate: 04-Mar-2005; LatestRevisionNote: PCB Footprint replaced.; PackageReference: J1-0603; Publisher: Altium Limited; Supplier 1: Digi-Key; Supplier Part Number 1: P1.0MECT-ND
footprint 3216[1206] (Chip Resistor; Body 3.2 x 1.6 mm (LxW typ))
pins: 1, 2

## CDERA00192
designator R?  value 180  TOLERANCE: 1%  POWER: .25W  (hidden comment: CDERA00192)
RESISTOR, CHIP 1206 180 OHM 1% 1/4W THICK FILM ROHS; MFG: PANASONIC; MFG_PN: ERJ-8ENF1800V; Published: 8-Jun-2000; LatestRevisionDate: 04-Mar-2005; LatestRevisionNote: PCB Footprint replaced.; PackageReference: J1-0603; Publisher: Altium Limited; Supplier 1: Digi-Key; Supplier Part Number 1: P180FCT-ND
footprint 3216[1206] (Chip Resistor; Body 3.2 x 1.6 mm (LxW typ))
pins: 1, 2

## CDERA00194
designator R?  value 47.5K  TOLERANCE: 1%  POWER: .25W  (hidden comment: CDERA00194)
RESISTOR, CHIP 1206 47.5K OHM 1% 1/4W THICK FILM ROHS; MFG: PANASONIC; MFG_PN: ERJ-8ENF4752V; Published: 8-Jun-2000; LatestRevisionDate: 04-Mar-2005; LatestRevisionNote: PCB Footprint replaced.; PackageReference: J1-0603; Publisher: Altium Limited; Supplier 1: Digi-Key; Supplier Part Number 1: P47.5KFCT-ND
footprint 3216[1206] (Chip Resistor; Body 3.2 x 1.6 mm (LxW typ))
pins: 1, 2

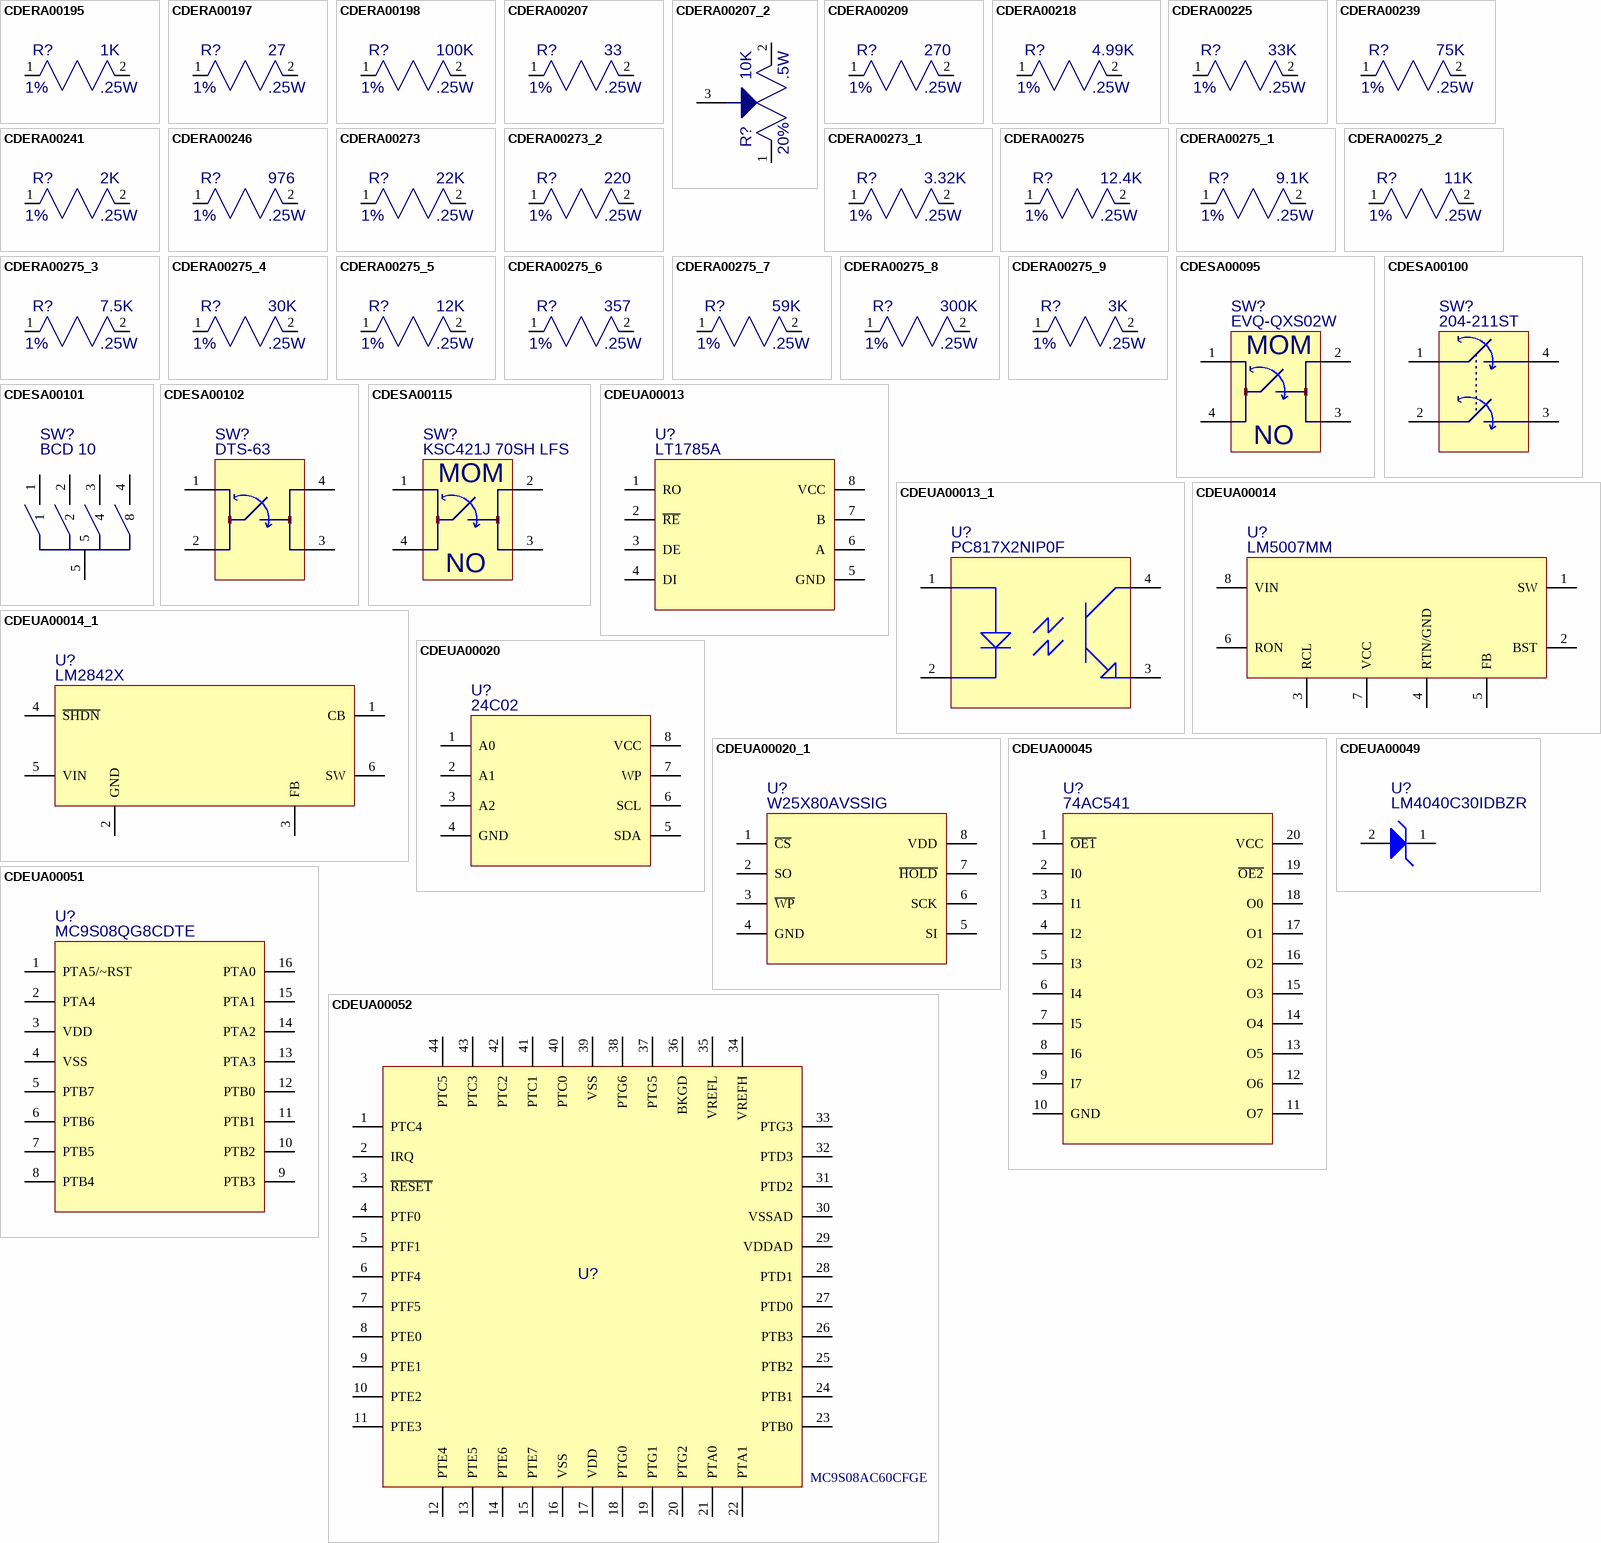
[diagram p2: symbols CDERA00195 to CDEUA00052]

## CDERA00195
designator R?  value 1K  TOLERANCE: 1%  POWER: .25W  (hidden comment: CDERA00195)
RESISTOR, CHIP 1206 1K OHM 1% 1/4W THICK FILM ROHS; MFG: PANASONIC; MFG_PN: ERJ-8ENF1001V; Published: 8-Jun-2000; LatestRevisionDate: 04-Mar-2005; LatestRevisionNote: PCB Footprint replaced.; PackageReference: J1-0603; Publisher: Altium Limited; Supplier 1: Digi-Key; Supplier Part Number 1: P1.00KFCT-ND
footprint 3216[1206] (Chip Resistor; Body 3.2 x 1.6 mm (LxW typ))
pins: 1, 2

## CDERA00197
designator R?  value 27  TOLERANCE: 1%  POWER: .25W  (hidden comment: CDERA00197)
RESISTOR, CHIP 1206 27 OHM 1% 1/4W THICK FILM ROHS; MFG: VISHAY; MFG_PN: CRCW120627R0FKEA; Supplier 1: Digi-Key; Supplier Part Number 1: 541-27.0FCT-ND
footprint 3216[1206] (Chip Resistor; Body 3.2 x 1.6 mm (LxW typ))
pins: 1, 2

## CDERA00198
designator R?  value 100K  TOLERANCE: 1%  POWER: .25W  (hidden comment: CDERA00198)
RESISTOR, CHIP 1206 100K OHM 1% 1/4W THICK FILM ROHS; MFG: PANASONIC; MFG_PN: ERJ-8ENF1003V; Published: 8-Jun-2000; LatestRevisionDate: 04-Mar-2005; LatestRevisionNote: PCB Footprint replaced.; PackageReference: J1-0603; Publisher: Altium Limited; Supplier 1: Digi-Key; Supplier Part Number 1: P100KFCT-ND
footprint 3216[1206] (Chip Resistor; Body 3.2 x 1.6 mm (LxW typ))
pins: 1, 2

## CDERA00207
designator R?  value 33  TOLERANCE: 1%  POWER: .25W  (hidden comment: CDERA00207)
RESISTOR, CHIP 1206 33 OHM 1% 1/4W THICK FILM ROHS; MFG: PANASONIC; MFG_PN: ERJ-8ENF33R0V; Supplier 1: Digi-Key; Supplier Part Number 1: P33.0FCT-ND
footprint 3216[1206] (Chip Resistor; Body 3.2 x 1.6 mm (LxW typ))
pins: 1, 2

## CDERA00207_2
designator R?  value 10K  TOLERANCE: 20%  POWER: .5W  (hidden comment: CDERA00207_2)
RESISTOR, POT 10K OHM 20% THUMBWHELL, CERM, TH, ROHS; MFG: BOURNS; MFG_PN: 3352T-1-103LF; Supplier 1: Digi-Key; Supplier Part Number 1: 3352T-103LF-ND
footprint BOURNS_3352 (RESISTOR POT THUMBWHEEL CERM TH)
pins: 1, 2, 3

## CDERA00209
designator R?  value 270  TOLERANCE: 1%  POWER: .25W  (hidden comment: CDERA00209)
RESISTOR, CHIP 1206 270 OHM 1% 1/4W THICK FILM ROHS; MFG: PANASONIC; MFG_PN: ERJ-8ENF2700V; Published: 8-Jun-2000; LatestRevisionDate: 04-Mar-2005; LatestRevisionNote: PCB Footprint replaced.; PackageReference: J1-0603; Publisher: Altium Limited; Supplier 1: Digi-Key; Supplier Part Number 1: P270FCT-ND
footprint 3216[1206] (Chip Resistor; Body 3.2 x 1.6 mm (LxW typ))
pins: 1, 2

## CDERA00218
designator R?  value 4.99K  TOLERANCE: 1%  POWER: .25W  (hidden comment: CDERA00218)
RESISTOR, CHIP 1206 4.99KOHM 1% 1/4W THICK FILM ROHS; MFG: PANASONIC; MFG_PN: ERJ-8ENF4991V; Published: 8-Jun-2000; LatestRevisionDate: 04-Mar-2005; LatestRevisionNote: PCB Footprint replaced.; PackageReference: J1-0603; Publisher: Altium Limited; Supplier 1: Digi-Key; Supplier Part Number 1: P4.99KFCT-ND
footprint 3216[1206] (Chip Resistor; Body 3.2 x 1.6 mm (LxW typ))
pins: 1, 2

## CDERA00225
designator R?  value 33K  TOLERANCE: 1%  POWER: .25W  (hidden comment: CDERA00225)
RESISTOR, CHIP 1206 33K OHM 1% 1/4W THICK FILM ROHS; MFG: PANASONIC; MFG_PN: ERJ-S08F3302V; Published: 8-Jun-2000; LatestRevisionDate: 04-Mar-2005; LatestRevisionNote: PCB Footprint replaced.; PackageReference: J1-0603; Publisher: Altium Limited; Supplier 1: Digi-Key; Supplier Part Number 1: ERJ-S08F3302V-ND
footprint 3216[1206] (Chip Resistor; Body 3.2 x 1.6 mm (LxW typ))
pins: 1, 2

## CDERA00239
designator R?  value 75K  TOLERANCE: 1%  POWER: .25W  (hidden comment: CDERA00239)
RESISTOR, CHIP 1206 75K OHM 1% 1/4W THICK FILM ROHS; MFG: ROHM; MFG_PN: MCR18EZHF7502; Published: 8-Jun-2000; LatestRevisionDate: 04-Mar-2005; LatestRevisionNote: PCB Footprint replaced.; PackageReference: J1-0603; Publisher: Altium Limited; Supplier 1: Digi-Key; Supplier Part Number 1: RHM75.0KFCT-ND
footprint 3216[1206] (Chip Resistor; Body 3.2 x 1.6 mm (LxW typ))
pins: 1, 2

## CDERA00241
designator R?  value 2K  TOLERANCE: 1%  POWER: .25W  (hidden comment: CDERA00241)
RESISTOR, CHIP 1206 2KOHM 1% 1/4W THICK FILM ROHS; MFG: PANASONIC; MFG_PN: ERJ-8ENF2001V; Published: 8-Jun-2000; LatestRevisionDate: 04-Mar-2005; LatestRevisionNote: PCB Footprint replaced.; PackageReference: J1-0603; Publisher: Altium Limited; Supplier 1: Digi-Key; Supplier Part Number 1: P2.00KFTR-ND
footprint 3216[1206] (Chip Resistor; Body 3.2 x 1.6 mm (LxW typ))
pins: 1, 2

## CDERA00246
designator R?  value 976  TOLERANCE: 1%  POWER: .25W  (hidden comment: CDERA00246)
RESISTOR, CHIP 1206 976 OHM 1% 1/4W THICK FILM ROHS; MFG: PANASONIC; MFG_PN: ERJ-8ENF9760V; Published: 8-Jun-2000; LatestRevisionDate: 04-Mar-2005; LatestRevisionNote: PCB Footprint replaced.; PackageReference: J1-0603; Publisher: Altium Limited; Supplier 1: Digi-Key; Supplier Part Number 1: P976FCT-ND
footprint 3216[1206] (Chip Resistor; Body 3.2 x 1.6 mm (LxW typ))
pins: 1, 2

## CDERA00273
designator R?  value 22K  TOLERANCE: 1%  POWER: .25W  (hidden comment: CDERA00273)
RESISTOR, CHIP 1206 22K OHM 1% 1/4W THICK FILM ROHS; MFG: PANASONIC; MFG_PN: ERJ-8ENF2202V; Published: 8-Jun-2000; LatestRevisionDate: 04-Mar-2005; LatestRevisionNote: PCB Footprint replaced.; PackageReference: J1-0603; Publisher: Altium Limited; Supplier 1: Digi-Key; Supplier Part Number 1: P22.0KFCT-ND
footprint 3216[1206] (Chip Resistor; Body 3.2 x 1.6 mm (LxW typ))
pins: 1, 2

## CDERA00273_1
designator R?  value 3.32K  TOLERANCE: 1%  POWER: .25W  (hidden comment: CDERA00273_1)
RESISTOR, CHIP 1206 3.32K OHM 1% 1/4W THICK FILM ROHS; MFG: PANASONIC; MFG_PN: ERJ-8ENF3321V; Published: 8-Jun-2000; LatestRevisionDate: 04-Mar-2005; LatestRevisionNote: PCB Footprint replaced.; PackageReference: J1-0603; Publisher: Altium Limited; Supplier 1: Digi-Key; Supplier Part Number 1: P3.32KFCT-ND
footprint 3216[1206] (Chip Resistor; Body 3.2 x 1.6 mm (LxW typ))
pins: 1, 2

## CDERA00273_2
designator R?  value 220  TOLERANCE: 1%  POWER: .25W  (hidden comment: CDERA00273_2)
RESISTOR, CHIP 1206 220 OHM 1% 1/4W THICK FILM ROHS; MFG: PANASONIC; MFG_PN: ERJ-8ENF2200V; Published: 8-Jun-2000; LatestRevisionDate: 04-Mar-2005; LatestRevisionNote: PCB Footprint replaced.; PackageReference: J1-0603; Publisher: Altium Limited; Supplier 1: Digi-Key; Supplier Part Number 1: P220FCT-ND
footprint 3216[1206] (Chip Resistor; Body 3.2 x 1.6 mm (LxW typ))
pins: 1, 2

## CDERA00275
designator R?  value 12.4K  TOLERANCE: 1%  POWER: .25W  (hidden comment: CDERA00275)
RESISTOR, CHIP 1206 12.4K OHM 1% 1/4W THICK FILM ROHS; MFG: PANASONIC; MFG_PN: ERJ-8ENF1242V; Published: 8-Jun-2000; LatestRevisionDate: 04-Mar-2005; LatestRevisionNote: PCB Footprint replaced.; PackageReference: J1-0603; Publisher: Altium Limited; Supplier 1: Digi-Key; Supplier Part Number 1: P12.4KFCT-ND
footprint 3216[1206] (Chip Resistor; Body 3.2 x 1.6 mm (LxW typ))
pins: 1, 2

## CDERA00275_1
designator R?  value 9.1K  TOLERANCE: 1%  POWER: .25W  (hidden comment: CDERA00275_1)
RESISTOR, CHIP 1206 9.1K OHM 1% 1/4W THICK FILM ROHS; MFG: PANASONIC; MFG_PN: ERJ-8ENF9101V; Published: 8-Jun-2000; LatestRevisionDate: 04-Mar-2005; LatestRevisionNote: PCB Footprint replaced.; PackageReference: J1-0603; Publisher: Altium Limited; Supplier 1: Digi-Key; Supplier Part Number 1: P9.10KFCT-ND
footprint 3216[1206] (Chip Resistor; Body 3.2 x 1.6 mm (LxW typ))
pins: 1, 2

## CDERA00275_2
designator R?  value 11K  TOLERANCE: 1%  POWER: .25W  (hidden comment: CDERA00275_2)
RESISTOR, CHIP 1206 11K OHM 1% 1/4W THICK FILM ROHS; MFG: PANASONIC; MFG_PN: ERJ-8ENF1102V; Published: 8-Jun-2000; LatestRevisionDate: 04-Mar-2005; LatestRevisionNote: PCB Footprint replaced.; PackageReference: J1-0603; Publisher: Altium Limited; Supplier 1: Digi-Key; Supplier Part Number 1: P11.0KFCT-ND
footprint 3216[1206] (Chip Resistor; Body 3.2 x 1.6 mm (LxW typ))
pins: 1, 2

## CDERA00275_3
designator R?  value 7.5K  TOLERANCE: 1%  POWER: .25W  (hidden comment: CDERA00275_3)
RESISTOR, CHIP 1206 7.5K OHM 1% 1/4W THICK FILM ROHS; MFG: PANASONIC; MFG_PN: ERJ-8ENF7501V; Published: 8-Jun-2000; LatestRevisionDate: 04-Mar-2005; LatestRevisionNote: PCB Footprint replaced.; PackageReference: J1-0603; Publisher: Altium Limited; Supplier 1: Digi-Key; Supplier Part Number 1: P7.50KFCT-ND
footprint 3216[1206] (Chip Resistor; Body 3.2 x 1.6 mm (LxW typ))
pins: 1, 2

## CDERA00275_4
designator R?  value 30K  TOLERANCE: 1%  POWER: .25W  (hidden comment: CDERA00275_4)
RESISTOR, CHIP 1206 30K OHM 1% 1/4W THICK FILM ROHS; MFG: PANASONIC; MFG_PN: ERJ-8ENF3002V; Published: 8-Jun-2000; LatestRevisionDate: 04-Mar-2005; LatestRevisionNote: PCB Footprint replaced.; PackageReference: J1-0603; Publisher: Altium Limited; Supplier 1: Digi-Key; Supplier Part Number 1: P30.0KFCT-ND
footprint 3216[1206] (Chip Resistor; Body 3.2 x 1.6 mm (LxW typ))
pins: 1, 2

## CDERA00275_5
designator R?  value 12K  TOLERANCE: 1%  POWER: .25W  (hidden comment: CDERA00275_5)
RESISTOR, CHIP 1206 12K OHM 1% 1/4W THICK FILM ROHS; MFG: PANASONIC; MFG_PN: ERJ-8ENF1202V; Published: 8-Jun-2000; LatestRevisionDate: 04-Mar-2005; LatestRevisionNote: PCB Footprint replaced.; PackageReference: J1-0603; Publisher: Altium Limited; Supplier 1: Digi-Key; Supplier Part Number 1: P12.0KFCT-ND
footprint 3216[1206] (Chip Resistor; Body 3.2 x 1.6 mm (LxW typ))
pins: 1, 2

## CDERA00275_6
designator R?  value 357  TOLERANCE: 1%  POWER: .25W  (hidden comment: CDERA00275_6)
RESISTOR, CHIP 1206 357 OHM 1% 1/4W THICK FILM ROHS; MFG: PANASONIC; MFG_PN: ERJ-8ENF3570V; Published: 8-Jun-2000; LatestRevisionDate: 04-Mar-2005; LatestRevisionNote: PCB Footprint replaced.; PackageReference: J1-0603; Publisher: Altium Limited; Supplier 1: Digi-Key; Supplier Part Number 1: P357FCT-ND
footprint 3216[1206] (Chip Resistor; Body 3.2 x 1.6 mm (LxW typ))
pins: 1, 2

## CDERA00275_7
designator R?  value 59K  TOLERANCE: 1%  POWER: .25W  (hidden comment: CDERA00275_7)
RESISTOR, CHIP 1206 59K OHM 1% 1/4W THICK FILM ROHS; MFG: PANASONIC; MFG_PN: ERJ-8ENF5902V; Published: 8-Jun-2000; LatestRevisionDate: 04-Mar-2005; LatestRevisionNote: PCB Footprint replaced.; PackageReference: J1-0603; Publisher: Altium Limited; Supplier 1: Digi-Key; Supplier Part Number 1: P59.0KFCT-ND
footprint 3216[1206] (Chip Resistor; Body 3.2 x 1.6 mm (LxW typ))
pins: 1, 2

## CDERA00275_8
designator R?  value 300K  TOLERANCE: 1%  POWER: .25W  (hidden comment: CDERA00275_8)
RESISTOR, CHIP 1206 300K OHM 1% 1/4W THICK FILM ROHS; MFG: PANASONIC; MFG_PN: ERJ-8ENF3003V; Published: 8-Jun-2000; LatestRevisionDate: 04-Mar-2005; LatestRevisionNote: PCB Footprint replaced.; PackageReference: J1-0603; Publisher: Altium Limited; Supplier 1: Digi-Key; Supplier Part Number 1: P300KFCT-ND
footprint 3216[1206] (Chip Resistor; Body 3.2 x 1.6 mm (LxW typ))
pins: 1, 2

## CDERA00275_9
designator R?  value 3K  TOLERANCE: 1%  POWER: .25W  (hidden comment: CDERA00275_9)
RESISTOR, CHIP 1206 3K OHM 1% 1/4W THICK FILM ROHS; MFG: PANASONIC; MFG_PN: ERJ-8ENF3001V; Published: 8-Jun-2000; LatestRevisionDate: 04-Mar-2005; LatestRevisionNote: PCB Footprint replaced.; PackageReference: J1-0603; Publisher: Altium Limited; Supplier 1: Digi-Key; Supplier Part Number 1: P3.00KFCT-ND
footprint 3216[1206] (Chip Resistor; Body 3.2 x 1.6 mm (LxW typ))
pins: 1, 2

## CDESA00095
designator SW?  value EVQ-QXS02W  (hidden comment: CDESA00095)
SWITCH, MOM, NO, SM; MFG: PANASONIC; Published: 8-Jun-2000; LatestRevisionDate: 17-Jul-2002; LatestRevisionNote: Re-released for DXP Platform.; DatasheetDocument: 1997; PackageReference: DO-35; Publisher: Altium Limited; Code_JEDEC: DO-204-AH; ComponentLink1Description: Manufacturer Link; ComponentLink1URL: http://www.fairchildsemi.com/; ComponentLink2Description: Datasheet; ComponentLink2URL: http://www.fairchildsemi.com/ds/1N%2F1N4148.pdf; MFG_PN: EVQ-QXS02W; Supplier 1: Digi-Key; Supplier Part Number 1: P13612SCT-ND
footprint PANASONIC_EVQQX
pins: 1, 2, 3, 4
text: MOM; NO

## CDESA00100
designator SW?  value 204-211ST  (hidden comment: CDESA00100)
SWITCH, DPST, SMT (4 PINS); MFG: CTS; Published: 8-Jun-2000; LatestRevisionDate: 17-Jul-2002; LatestRevisionNote: Re-released for DXP Platform.; DatasheetDocument: 1997; PackageReference: DO-35; Publisher: Altium Limited; Code_JEDEC: DO-204-AH; ComponentLink1Description: Manufacturer Link; ComponentLink1URL: http://www.fairchildsemi.com/; ComponentLink2Description: Datasheet; ComponentLink2URL: http://www.fairchildsemi.com/ds/1N%2F1N4148.pdf; MFG_PN: 204-211ST; Supplier 2: Digi-Key; Supplier 1: Digi-Key; Supplier Part Number 2: CT204211ST-ND; Supplier Part Number 1: CT204211ST-ND
footprint CTS_204-211ST (SWITCH, MFG: CTS, PN: 204-211ST, DPST, SM)
pins: 1, 2, 3, 4